# Altium schematic symbol library LMG1205.Schlib: 1 symbol
Pins are listed as number, name and electrical type; pins without a type are passive.

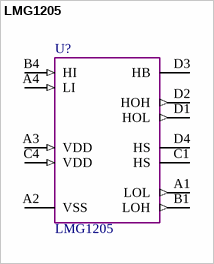
[diagram p0: symbol LMG1205]

## LMG1205
designator U?
pins: A1 LOL (out), A2 VSS, A3 VDD (in), A4 LI (in), B1 LOH (out), B4 HI (in), C1 HS, C4 VDD (in), D1 HOL (out), D2 HOH (out), D3 HB, D4 HS